# EAGLE library part MMA8653 (library lightmeter)
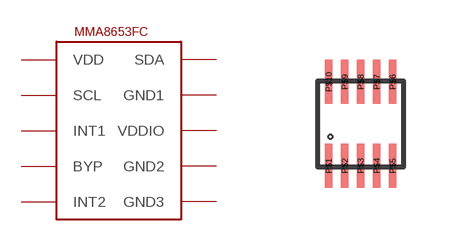
[diagram p2: symbol with the pads of DFN-10; footprint DFN-10]

Designator prefix -

## MMA8653  [DFN-10]
P$1  VDD
P$2  SCL
P$3  INT1
P$4  BYP
P$5  INT2
P$6  GND3
P$7  GND2
P$8  VDDIO
P$9  GND1
P$10  SDA

## Footprint DFN-10 (pad centres in mm)
smd 0.191 x 1.099: P$1 -0.8,-1.048; P$2 -0.4,-1.048; P$3 0,-1.048; P$4 0.4,-1.048; P$5 0.8,-1.048; P$6 0.8,1.048; P$7 0.4,1.048; P$8 0,1.048; P$9 -0.4,1.048; P$10 -0.8,1.048